# EAGLE library part TSL250-RD (library foe-scale)
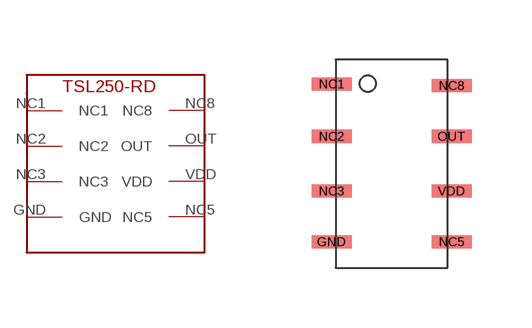
[diagram p19: symbol with the pads of TSL250-RD; footprint TSL250-RD]

Designator prefix -

## TSL250-RD  [TSL250-RD]
GND  GND
NC1  NC1
NC2  NC2
NC3  NC3
NC5  NC5
NC8  NC8
OUT  OUT
VDD  VDD

## Footprint TSL250-RD (pad centres in mm)
smd 1 x 0.33: GND -1.5,-1.955; NC1 -1.5,1.995; NC2 -1.5,0.685; NC3 -1.5,-0.685; NC5 1.5,-1.955; NC8 1.5,1.955; OUT 1.5,0.685; VDD 1.5,-0.685